# Altium integrated library UART_Module.IntLib: 14 symbols
Pins are listed as number, name and electrical type; pins without a type are passive.

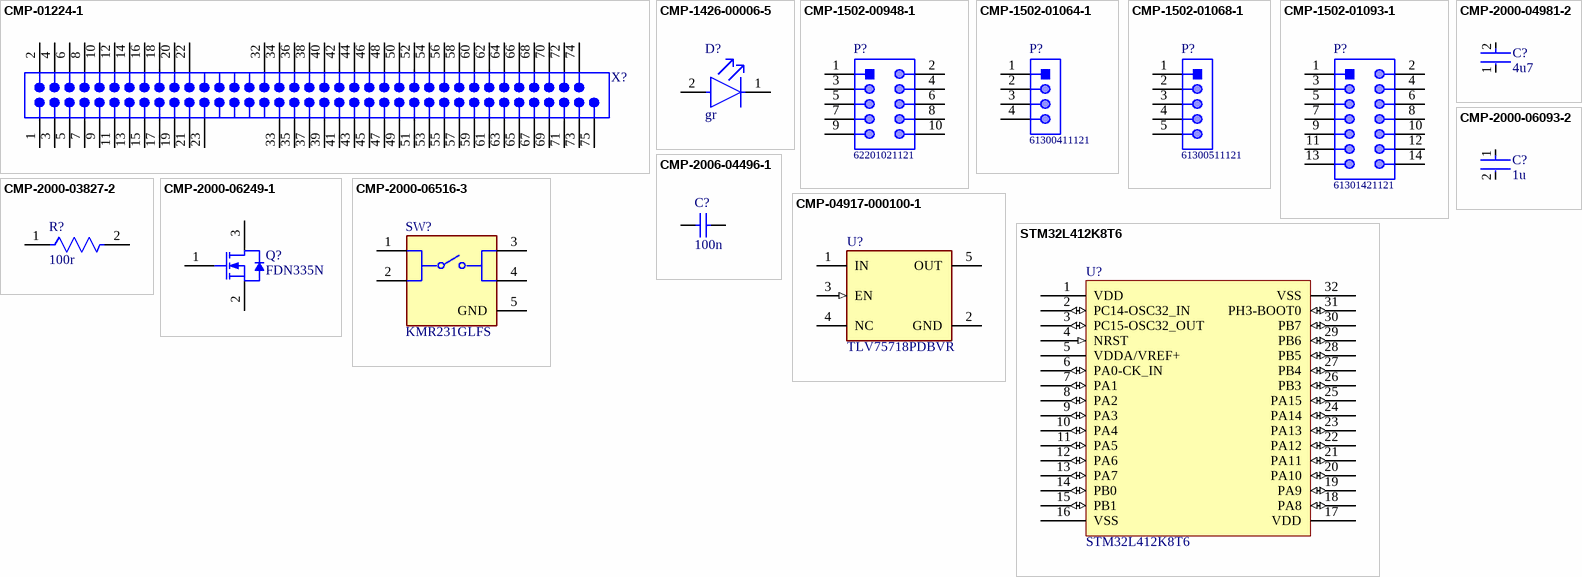
[diagram p0: symbols CMP-01224-1 to STM32L412K8T6]

## CMP-01224-1
designator X?, comment CONN PWR CARD EDGE PCB SLOT MALE  (value not drawn)  (no BOM)
Mates with 2199119-4 - No BOM; Number of Positions: 67; Pitch: 0.5mm; Card Thickness: 0.8mm; Card Type: Non Specified - Dual Edge; Gender: Male; Mates with: 2199119-4
footprint CON-67_0.5MM_PCB_SLOT (Connector 67, 0.5mm pitch - No BOM)
pins: 1, 2, 3, 4, 5, 6, 7, 8, 9, 10, 11, 12, 13, 14, 15, 16, 17, 18, 19, 20, 21, 22, 23, 32, 33, 34, 35, 36, 37, 38, 39, 40, 41, 42, 43, 44, 45, 46, 47, 48, 49, 50, 51, 52 51, 53, 54 52, 55, 56 53, 57, 58 54, 59, 60 55, 61, 62, 63, 64, 65, 66, 67, 68, 69, 70, 71, 72, 73, 74, 75

## CMP-1426-00006-5
designator D?, comment gr
LED GREEN CLEAR 0603 SMD; Manufacturer: Wurth Electronics; Manufacturer Part Number: 150060VS75000; Viewing Angle: 140°; Reverse Voltage (DC): 5V; Forward Voltage: 2V; Power Rating: 72mW; Lens Size: 0.7mm; Test Current: 20mA; Lens Color: Colorless; Lens Style: Rectangular; Luminous Intensity: 40mcd; Wavelength: 570nm; Length: 1.6mm; Max Operating Temperature: 85°C; Lens Transparency: Clear; Width: 0.8mm; Mount: Surface Mount; Weight: 0.000882oz; Package Quantity: 4000; Packaging: Cut Tape; RoHS Compliant: Yes; Case/Package: 0603; Series: WL-SMCW; Case Code (Metric): 1608; Illumination Color: Green; Color: Green; Case Code (Imperial): 0603; Forward Current: 20mA; Min Operating Temperature: -40°C; Height: 0.8mm; Dominant Wavelength: 570nm; Number of Pins: 2
footprint FP-150060VS75000-MFG
pins: 1 C, 2 A

## CMP-1502-00948-1
designator P?, comment 62201021121
THT Vertical Pin Header WR-PHD, Pitch 1.27 mm, Dual Row, 10 pins; Manufacturer: Wurth Elektronik; Manufacturer: Wurth Electronics; Rated Current: 1A; Pin Number: 10; Working Voltage: 100VAC; Contact Resistance: 20mOhm; Withstanding Voltage: 500VAC; Pitch: 1.27mm; Gender: Male; Mounting Technology: THT; Manufacturer URL: http://www.we-online.de; Package Reference: 62201021121; Row Number: Dual; Datasheet URL: https://katalog.we-online.de/em/datasheet/62201021121.pdf; Publisher: WurthElektronik; Packaging: Box; Operating Temperature: -40to105degC; Orientation: Vertical; Part Number: 62201021121; Manufacturer Part Number: 62201021121
footprint 62201021121 (Pin Header, pitch 1.27 mm, THT, Vertical, dual row, 10p)
pins: 1, 2, 3, 4, 5, 6, 7, 8, 9, 10

## CMP-1502-01064-1
designator P?, comment 61300411121
THT Vertical Pin Header WR-PHD, Pitch 2.54 mm, Single Row, 4 pins; Manufacturer: Wurth Elektronik; Manufacturer: Wurth Electronics; Withstanding Voltage: 500VAC; Rated Current: 3A; Working Voltage: 250VAC; Pin Number: 4; Gender: Male; Contact Resistance: 20mOhm; Pitch: 2.54mm; Manufacturer URL: http://www.we-online.de; Operating Temperature: -40to105degC; Packaging: Bag; Mounting Technology: THT; Package Reference: 61300411121; Datasheet URL: https://katalog.we-online.de/em/datasheet/6130xx11121.pdf; Publisher: WurthElektronik; Part Number: 61300411121; Row Number: Single; Orientation: Vertical; Manufacturer Part Number: 61300411121
footprint 61300411121 (Pin Header, pitch 2.54 mm, THT, Vertical, single row, 4p)
pins: 1, 2, 3, 4

## CMP-1502-01068-1
designator P?, comment 61300511121
THT Vertical Pin Header WR-PHD, Pitch 2.54 mm, Single Row, 5 pins; Manufacturer: Wurth Elektronik; Manufacturer: Wurth Electronics; Pin Number: 5; Contact Resistance: 20mOhm; Working Voltage: 250VAC; Pitch: 2.54mm; Withstanding Voltage: 500VAC; Rated Current: 3A; Gender: Male; Datasheet URL: https://katalog.we-online.de/em/datasheet/6130xx11121.pdf; Orientation: Vertical; Mounting Technology: THT; Row Number: Single; Package Reference: 61300511121; Publisher: WurthElektronik; Part Number: 61300511121; Packaging: Bag; Manufacturer URL: http://www.we-online.de; Operating Temperature: -40to105degC; Manufacturer Part Number: 61300511121
footprint 61300511121 (Pin Header, pitch 2.54 mm, THT, Vertical, single row, 5p)
pins: 1, 2, 3, 4, 5

## CMP-1502-01093-1
designator P?, comment 61301421121
THT Vertical Pin Header WR-PHD, Pitch 2.54 mm, Dual Row, 14 pins; Manufacturer: Wurth Elektronik; Manufacturer: Wurth Electronics; Rated Current: 3A; Withstanding Voltage: 500VAC; Gender: Male; Pin Number: 14; Pitch: 2.54mm; Working Voltage: 250VAC; Contact Resistance: 20mOhm; Mounting Technology: THT; Orientation: Vertical; Packaging: Bag; Part Number: 61301421121; Manufacturer URL: http://www.we-online.de; Datasheet URL: https://katalog.we-online.de/em/datasheet/6130xx21121.pdf; Operating Temperature: -40to105degC; Package Reference: 61301421121; Publisher: WurthElektronik; Row Number: Dual; Manufacturer Part Number: 61301421121
footprint 61301421121 (Pin Header, pitch 2.54 mm, THT, Vertical, dual row, 14p)
pins: 1, 2, 3, 4, 5, 6, 7, 8, 9, 10, 11, 12, 13, 14

## CMP-2000-03827-2
designator R?, comment 100r
RES Thick Film, 100Ω, 5%, 0.1W, 200ppm/°C, 0603; Manufacturer: Vishay Dale; Manufacturer Part Number: CRCW0603100RJNEA; Power Rating: 100mW; Voltage Rating: 75V; Weight: 7.1E-05oz; Max Operating Temperature: 155°C; Military Standard: Not; Case Code (Imperial): 0603; Case/Package: 0603; Packaging: Tape and Reel; Number of Terminations: 2; Package Quantity: 1; Radiation Hardening: No; Termination: SMD/SMT; Case Code (Metric): 1608; Min Operating Temperature: -55°C; Resistance: 100R; Height: 0.02inch; Length: 1.55mm; Tolerance: 5%; Width: 0.85mm; Contact Plating: Tin; Max Power Dissipation: 100mW; Features: Automotive AEC-Q200; Composition: Thick Film; Temperature Coefficient: 200ppm/°C; Depth: 0.85mm
footprint FP-CRCW0603-e3-IPC_B
footprint FP-CRCW0603-e3-IPC_C
footprint FP-CRCW0603-e3-IPC_A
footprint FP-CRCW0603-e3-MFG
pins: 1, 2

## CMP-2000-04981-2
designator C?, comment 4u7
Multilayer Ceramic Capacitors 4.7μF ±10% 16V X5R SMD 0603; Manufacturer: TDK; Manufacturer Part Number: C1608X5R1C475K080AC; Capacitance: 4.7uF; Tolerance: 10%; Thickness: 0.035inch; Length: 1.6mm; Width: 0.031inch; Height: 0.8mm; Package Quantity: 1; Voltage: 16V; Construction: Flat; Weight: 7.1E-05oz; Depth: 0.8mm; Case Code (Metric): 1608; Series: C; Lead Free: Lead Free; Voltage Rating: 16V; Voltage Rating (DC): 16V; Termination: SMD/SMT; Dielectric: X5R; REACH SVHC: No SVHC; RoHS Compliant: Yes; Case Code (Imperial): 0603; Case/Package: 0603; Mount: Surface Mount; Dielectric Material: Ceramic; Packaging: Tape and Reel; Min Operating Temperature: -55°C; Max Operating Temperature: 85°C
footprint FP-C1608-080-0_1-IPC_C
footprint FP-C1608-080-0_1-IPC_B
footprint FP-C1608-080-0_1-MFG
footprint FP-C1608-080-0_1-IPC_A
pins: 1, 2

## CMP-2000-06093-2
designator C?, comment 1u
CAP CER 1UF 16V X7R 0603; Manufacturer: Samsung Electro-Mechanics America, Inc; Manufacturer Part Number: CL10B105KO8NNNC; Manufacturer: Samsung; Temperature Coefficient: 15%; Material: Ceramic; Tolerance: 10%; Voltage Rating: 16V; Automotive: No; ComponentLink2Description: Datasheet; Device Class L3: Ceramic Capacitors; Capacitance: 1uF; Temperature Characteristic: X7R; Temperature Range High: +125°C; Digikey Description: CAP CER 1UF 16V X7R 0603; Device Class L2: Capacitors; Octopart: https://octopart.com/cl10b105ko8nnnc-samsung-19018973; ComponentLink2URL: http://www.samsungsem.com/global/front/downloadcms.do?path=%2F%2Fglobal%2F%2Fsupport%2F%2Fproduct-search%2F%2Fmlcc%2F%2F__icsFiles%2F%2Fafieldfile%2F%2F2019%2F%2F06%2F%2F18&fileName=CL10B105KO8NNNC-19.pdf; Lead Free: Yes; Height: 0.9mm; Package: CL10B105KO8NNNC; Temperature Range Low: -55°C; Value: 1uF; Device Class L1: Passive Components; RoHS: TRUE; Temperature: -55°C to +125°C; Category: Cap; Ipc Land Pattern Name: CAPC16080X80
footprint FP-CL10B105KO8NNNC-MFG
footprint FP-CL10B105KO8NNNC-IPC_C
footprint FP-CL10B105KO8NNNC-IPC_B
footprint FP-CL10B105KO8NNNC-IPC_A
pins: 1, 2

## CMP-2000-06249-1
designator Q?, comment FDN335N
N-Channel Specified PowerTrench(R) MOSFET, 2.5 V, 1.7 A, -55 to 150 degC, 3-Pin SSOT3L, RoHS, Tape and Reel; Manufacturer: FairchildSemiconductor; Manufacturer: ON Semiconductor / Fairchild; RDS-on: 0.07@4.5VOhm; Typical Fall Time: 3ns; Maximum Drain Source Voltage: 20V; Rad Hard: No; Channel Mode: Enhancement; Package Version: Rev. 3, 05/2015; Maximum Gate Source Voltage: ±8V; Typical Rise Time: 8.5ns; Typical Turn-Off Delay Time: 11ns; Maximum Continuous Drain Current: 1.7A; Channel Type: N; Typical Turn-On Delay Time: 5ns; Packaging: Tape&Reel; Mounting Technology: SurfaceMount; Mounting: SurfaceMount; Manufacturer URL: https://www.fairchildsemi.com/; Datasheet URL: https://www.fairchildsemi.com/datasheets/FD/FDN335N.pdf; Package Description: 3-Pin Small Outline Transistor, Body 2.92 x 1.4 mm, Pitch 0.95 mm; Package URL: https://www.fairchildsemi.com/package-drawings/MA/MA03B.pdf; Datasheet Version: Rev. C, 04/1999; Package Reference: SSOT3L; Package: 3SuperSOT; Operating Temperature: -55to150°C; Category: MOSFET; Manufacturer Part Number: FDN335N
footprint FAIR-SSOT3L-3_V (SOT23, 3-Leads, Body 2.92x1.4mm, Pitch 0.95mm)
pins: 1 G, 2 S, 3 D

## CMP-2000-06516-3
designator SW?, comment KMR231GLFS
SWITCH TACTILE SPST-NO 0.05A 32V; Manufacturer: ITT C&K; Switch Travel: 0.25mm; Current Rating: 50mA; Operating Force: 3N; Actuator Type: Standard; Illumination Type: Non-Illuminated; Mechanical Life: 150000Cycles; Insulation Resistance: 1GR; Contact Resistance: 100mR; Actuator Length: 0.5mm; Power Rating: 1W; Throw Configuration: SPST; Switch Function: Off-Mom; Min Operating Temperature: -40°C; Termination: Gull Wing; Orientation: Straight; Lead Free: Lead Free; Width: 2.8mm; Contact Material: Silver; Max Voltage Rating (DC): 32V; Max Current Rating: 50mA; Contact Plating: Silver; Radiation Hardening: No; Depth: 4.6mm; Mount: Surface Mount; Max Operating Temperature: 85°C; Case/Package: SMD/SMT; Contact Current Rating: 50mA; Length: 4.6mm; Package Quantity: 7000; Series: KMR2; REACH SVHC: No SVHC; Packaging: Cut Tape; Voltage Rating (DC): 32V; Manufacturer Part Number: KMR231GLFS
footprint FP-KMR231GLFS-MFG
pins: 1, 2, 3, 4, 5 GND (power)

## CMP-2006-04496-1
designator C?, comment 100n
Manufacturer: AVX Interconnect / Elco; Part Number: 0603YC104KAZ2A; Manufacturer: Kyocera AVX; Manufacturer Part Number: 0603YC104KAZ2A
footprint CAPC1608X90X35ML15T15 (Chip Capacitor, 2-Leads, Body 1.60x0.81mm, IPC Low Density)
footprint CAPC1608X90X35LL15T15 (Chip Capacitor, 2-Leads, Body 1.60x0.81mm, IPC High Density)
footprint CAPC1608X90X35NL15T15 (Chip Capacitor, 2-Leads, Body 1.60x0.81mm, IPC Medium Density)
pins: 1, 2
1 alternate drawing of the same symbol

## CMP-04917-000100-1
designator U?, comment TLV75718PDBVR
IC REG LINEAR 1.8V 1A SOT23-5; Manufacturer: Texas Instruments; Power Supply Rejection Ratio (PSRR): 52dB; Output Configuration: Positive; Number of Regulators: 1; Dropout Voltage: 800mV; Output Type: Fixed; Max Supply Current: 40uA; Max Input Voltage: 5.5V; Min Operating Temperature: -40°C; Max Operating Temperature: 125°C; Mount: Surface Mount; RoHS Compliant: Yes; Packaging: Cut Tape; Case/Package: SOT-23-5; Min Output Voltage: 1.8V; Output Current: 1A; Manufacturer Part Number: TLV75718PDBVR
footprint FP-DBV0005A-IPC_A
footprint FP-DBV0005A-MFG
footprint FP-DBV0005A-IPC_B
footprint FP-DBV0005A-IPC_C
pins: 1 IN (power), 2 GND (power), 3 EN (in), 4 NC, 5 OUT (power)

## STM32L412K8T6
designator U?
footprint STM32L412K8T6 (LQFP, 32-Leads, Body 7,00x7,00mm, Pitch 0,80mm)
pins: 1 VDD (power), 2 PC14-OSC32_IN (io), 3 PC15-OSC32_OUT (io), 4 NRST (in), 5 VDDA/VREF+ (power), 6 PA0-CK_IN (io), 7 PA1 (io), 8 PA2 (io), 9 PA3 (io), 10 PA4 (io), 11 PA5 (io), 12 PA6 (io), 13 PA7 (io), 14 PB0 (io), 15 PB1 (io), 16 VSS (power), 17 VDD (power), 18 PA8 (io), 19 PA9 (io), 20 PA10 (io), 21 PA11 (io), 22 PA12 (io), 23 PA13 (io), 24 PA14 (io), 25 PA15 (io), 26 PB3 (io), 27 PB4 (io), 28 PB5 (io), 29 PB6 (io), 30 PB7 (io), 31 PH3-BOOT0 (io), 32 VSS (power)